# Altium schematic symbol library AD8656.SchLib: 1 symbol
Pins are listed as number, name and electrical type; pins without a type are passive.

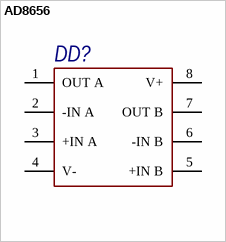
[diagram p0: symbol AD8656]

## AD8656
designator DD?
Part Number: IRS21867
footprint SOIC-8
pins: 1 OUT A, 2 -IN A, 3 +IN A, 4 V-, 5 +IN B, 6 -IN B, 7 OUT B, 8 V+